# Altium footprint library 剥皮器20200614.PcbLib: 36 footprints (part 2 of 3)
Each footprint in its own frame and in the unit in brackets; x right, y up, seen from the top. Pads: shape width x height; smd on the part's side, far side on the other; paste and mask are expansions set on the pad; w line width, h text height; cw(c..) or ccw(c..) is an arc to the next point about the centre after c.
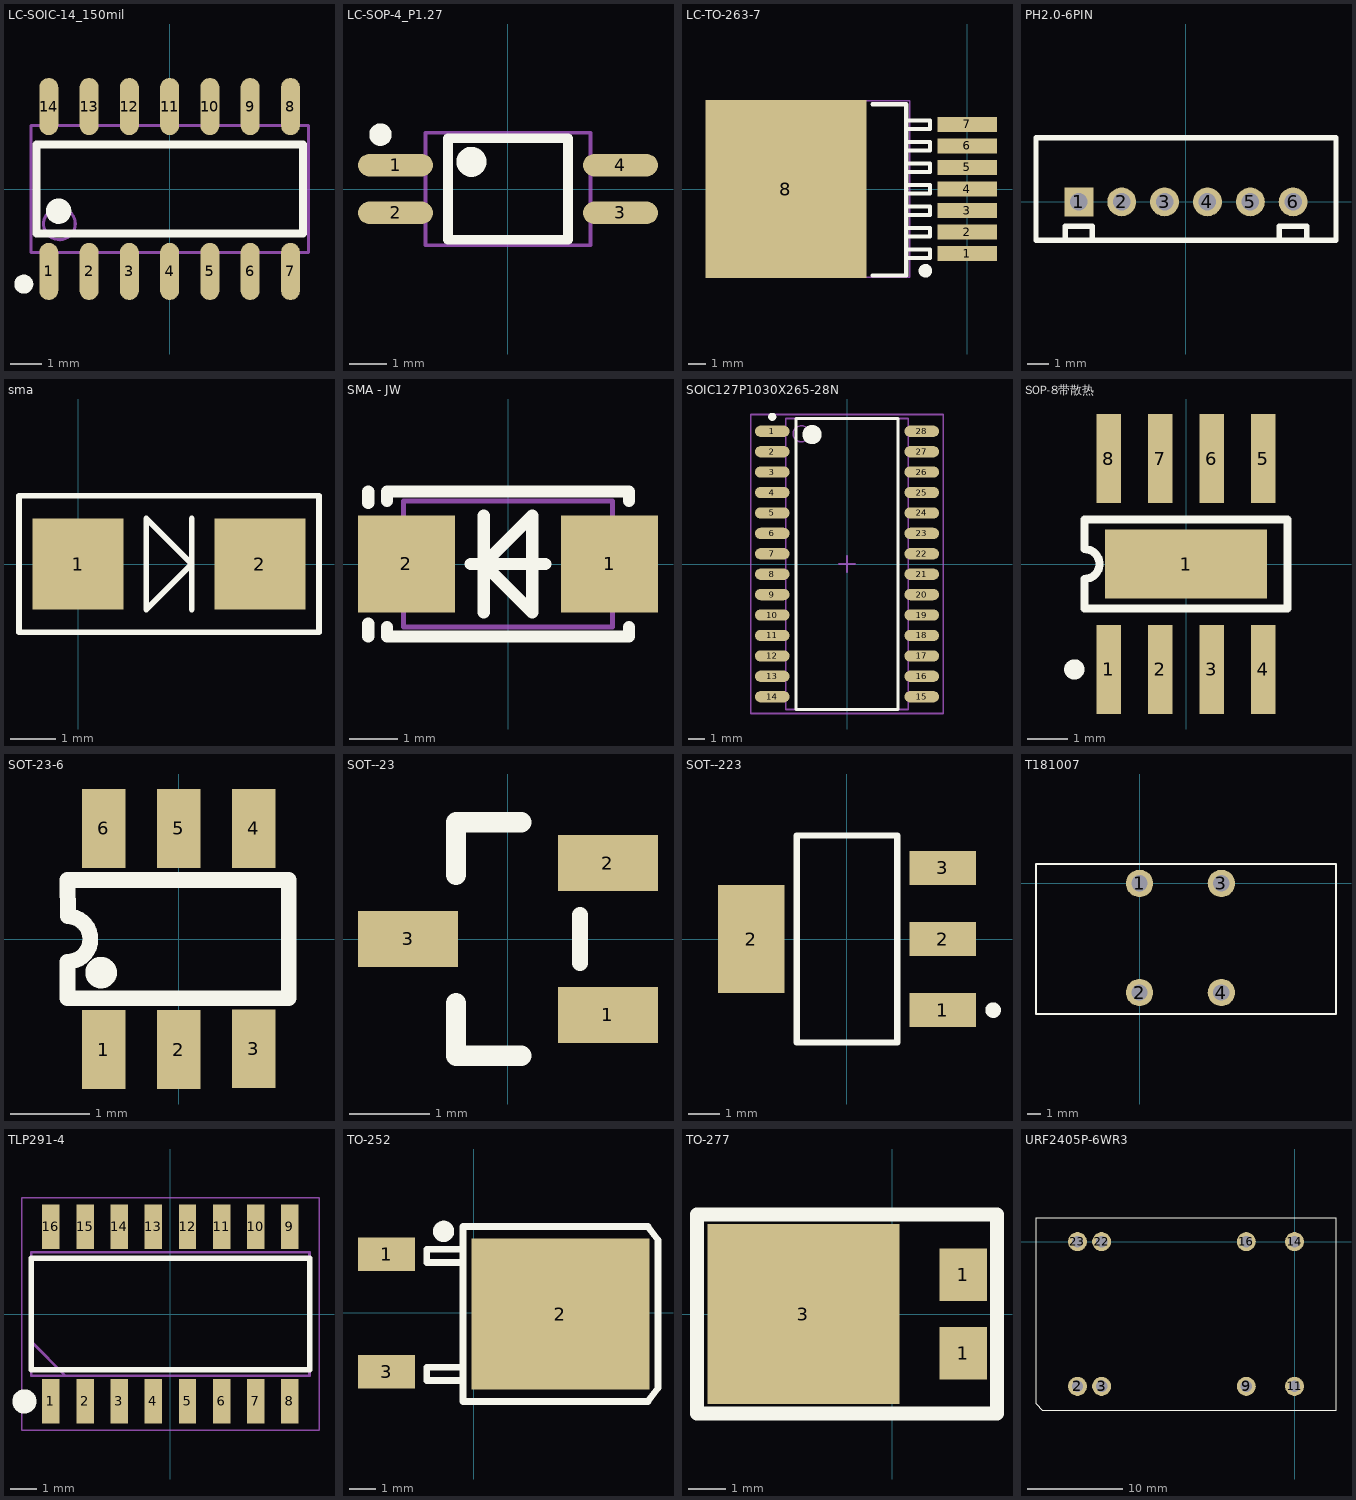
[diagram p1: the footprints below, top view; thin cyan lines are the x and y axes]

## LC-SOIC-14_150mil [mm]
height 2.54
pads (14):
  oval 0.6x1.8 smd: 1(-3.81,-2.6) 2(-2.54,-2.6) 3(-1.27,-2.6) 4(0,-2.6) 5(1.27,-2.6) 6(2.54,-2.6) 7(3.81,-2.6) 8(3.81,2.6) 9(2.54,2.6) 10(1.27,2.6) 11(0,2.6) 12(-1.27,2.6) 13(-2.54,2.6) 14(-3.81,2.6)
Top Overlay:
  circle w0.3: c-4.6,-3 r0.15
  circle w0.4: c-3.5,-0.7 r0.2
  lines w0.254: -4.2,-1.4 4.2,-1.4 4.2,1.4 -4.2,1.4 -4.2,-1.4
Mechanical 13:
  circle w0.1: c-3.475,-1.1 r0.5
  lines w0.1: -4.375,-2 4.375,-2 4.375,2 -4.375,2 -4.375,-2

## LC-SOP-4_P1.27 [mm]
pads (4):
  oval 2x0.6 smd: 1(-3,0.635) 2(-3,-0.635) 3(3,-0.635) 4(3,0.635)
Top Overlay:
  circle w0.4: c-0.975,0.725 r0.2
  circle w0.3: c-3.4,1.45 r0.15
  lines w0.254: -1.6,-1.35 1.6,-1.35 1.6,1.35 -1.6,1.35 -1.6,-1.35
Mechanical 13:
  lines w0.1: -2.2,-1.5 2.2,-1.5 2.2,1.5 -2.2,1.5 -2.2,-1.5

## LC-TO-263-7 [mm]
pads (8):
  rect 3.5x0.9 smd: 1(0,-3.81) 2(0,-2.54) 3(0,-1.27) 4(0,0) 5(0,1.27) 6(0,2.54) 7(0,3.81)
  rect 9.5x10.5 smd: 8(-10.7,0)
Top Overlay:
  circle w0.4: c-2.475,-4.825 r0.2
  lines w0.254: -5.6,-5.1 -3.6,-5.1 -3.6,5 -5.6,5 ; -3.6,-4.075 -2.2,-4.075 -2.2,-3.575 -3.6,-3.575 ; -3.6,-2.805 -2.2,-2.805 -2.2,-2.305 -3.6,-2.305 ; -3.6,-1.535 -2.2,-1.535 -2.2,-1.035 -3.6,-1.035 ; -3.6,-0.265 -2.2,-0.265 -2.2,0.235 -3.6,0.235 ; -3.6,1.005 -2.2,1.005 -2.2,1.505 -3.6,1.505 ; -3.6,2.275 -2.2,2.275 -2.2,2.775 -3.6,2.775 ; -3.6,3.545 -2.2,3.545 -2.2,4.045 -3.6,4.045
Mechanical 13:
  lines w0.1: -14.4,-5.2 -3.4,-5.2 -3.4,5.2 -14.4,5.2 -14.4,-5.2

## PH2.0-6PIN [mm]
pads (6):
  rect 1.35x1.35 hole 0.82: 1(-5,0)
  round 1.35 hole 0.82: 2(-3,0) 3(-1,0) 4(1,0) 5(3,0) 6(5,0)
Top Overlay:
  lines w0.254: -5.64,-1.8 -5.64,-1.148 -4.366,-1.148 -4.366,-1.8 ; 4.36,-1.8 4.36,-1.148 5.634,-1.148 5.634,-1.8 ; 7,-1.8 7,3 ; 7,-1.8 -7,-1.8 -7,3 7,3 ; 7,-1.8 7,3

## sma [mm]
pads (2):
  rect 2x2 smd: 1(0,0) 2(4,0)
Top Overlay:
  lines w0.127: 2.5,-1 2.5,1 ; -1.3,-1.5 5.3,-1.5 5.3,1.5 -1.3,1.5 -1.3,-1.5 ; 1.5,-1 2.5,0 1.5,1 1.5,-1

## SMA - JW [mm] "贴片4007"
pads (2):
  rect 2x2 smd: 1(2.1,0) 2(-2.1,0)
Top Overlay:
  lines w0.254: -2.891,-1.5 -2.891,-1.232 ; -2.891,1.26 -2.891,1.5 ; -2.5,-1.3 -2.5,-1.5 2.5,-1.5 2.5,-1.3 ; -2.5,1.3 -2.5,1.5 2.5,1.5 2.5,1.3 ; -0.77,0 0.77,0 ; -0.5,-1 -0.5,1 ; -0.5,0 0.5,-1 0.5,1 -0.5,0
Mechanical 13:
  lines w0.1: -2.16,-1.3 2.16,-1.3 2.16,1.3 -2.16,1.3 -2.16,-1.3

## SOIC127P1030X265-28N [mm] "SOIC, 28-Leads, Body 18.1x7.6mm (max), Pitch 1.27mm, IPC Medium Density"
height 2.65
pads (28):
  oval 2.15x0.7 smd: 1(-4.65,8.255) 2(-4.65,6.985) 3(-4.65,5.715) 4(-4.65,4.445) 5(-4.65,3.175) 6(-4.65,1.905) 7(-4.65,0.635) 8(-4.65,-0.635) 9(-4.65,-1.905) 10(-4.65,-3.175) 11(-4.65,-4.445) 12(-4.65,-5.715) 13(-4.65,-6.985) 14(-4.65,-8.255) 15(4.65,-8.255) 16(4.65,-6.985) 17(4.65,-5.715) 18(4.65,-4.445) 19(4.65,-3.175) 20(4.65,-1.905) 21(4.65,-0.635) 22(4.65,0.635) 23(4.65,1.905) 24(4.65,3.175) 25(4.65,4.445) 26(4.65,5.715) 27(4.65,6.985) 28(4.65,8.255)
Top Overlay:
  circle w0.25: c-4.65,9.155 r0.125
  circle w0.6: c-2.175,8.05 r0.3
  lines w0.2: -3.175,-9.05 -3.175,9.05 3.175,9.05 3.175,-9.05 -3.175,-9.05
Mechanical 13:
  circle w0.1: c-2.85,8.1 r0.5
  lines w0.1: -3.8,-9.05 -3.8,9.05 3.8,9.05 3.8,-9.05 -3.8,-9.05
Mechanical 15:
  lines w0.1: -0.5,0 0.5,0 ; 0,-0.5 0,0.5 ; -5.975,-9.3 -5.975,9.3 5.975,9.3 5.975,-9.3 -5.975,-9.3
3D body: height 2.65, standoff 0.1, extent -3.8,-9.05 3.8,9.05

## SOP-8带散热 [mm] "SOP-8带散热"
pads (9):
  rect 0.6x2.2 smd: 1(-1.905,-2.6) 2(-0.635,-2.6) 3(0.635,-2.6) 4(1.905,-2.6) 5(1.905,2.6) 6(0.635,2.6) 7(-0.635,2.6) 8(-1.905,2.6)
  rect 4x1.7 smd: 1(0,0)
Top Overlay:
  circle w0.25: c-2.755,-2.6 r0.125
  lines w0.2: -2.5,-1.1 -2.5,-0.367 ccw(c-2.5,0) -2.5,0.367 -2.5,1.1 2.5,1.1 2.5,-1.1 -2.5,-1.1

## SOT-23-6 [mm] "DW01"
pads (6):
  rect 0.55x1 smd: 1(-0.95,-1.4) 2(0,-1.4) 3(0.95,-1.39) 4(0.95,1.4) 5(0,1.4) 6(-0.95,1.4)
Top Overlay:
  circle w0.2: c-0.982,-0.426 r0.1
  lines w0.2: -1.406,-0.75 -1.406,-0.288 ccw(c-1.406,0) -1.403,0.288 -1.406,0.748 1.396,0.748 1.396,-0.75 -1.406,-0.75

## SOT--23 [mm] "贴片三极管"
pads (3):
  rect 1.25x0.7 smd: 1(1.25,-0.95) 2(1.25,0.95) 3(-1.25,0)
Top Overlay:
  lines w0.2: 0.9,-0.3 0.9,0.3
  lines w0.254: -0.65,-0.8 -0.65,-1.46 0.165,-1.46 ; 0.165,1.46 -0.65,1.46 ; -0.65,0.8 -0.65,1.46 ; -0.65,0.8 -0.65,1.46 ; -0.65,0.8 -0.65,1.46

## SOT--223 [mm] "AMS1117"
pads (4):
  rect 2.15x1.1 smd: 1(3.1,-2.3) 2(3.1,0) 3(3.1,2.3)
  rect 2.15x3.5 smd: 2(-3.1,0)
Top Overlay:
  circle w0.25: c4.725,-2.3 r0.125
  lines w0.2: -1.625,-3.35 -1.625,3.35 1.625,3.35 1.625,-3.35 -1.625,-3.35

## T181007 [mm]
height 2.65
pads (4):
  round 2 hole 1.2: 1(0,0) 2(0,-8) 3(6,0) 4(6,-8)
Top Overlay:
  lines w0.127: -7.595,-9.576 -7.595,1.424 14.405,1.424 14.405,-9.576 -7.595,-9.576

## TLP291-4 [mm]
pads (16):
  rect 0.65x1.65 smd: 1(-4.445,-3.25) 2(-3.175,-3.25) 3(-1.905,-3.25) 4(-0.635,-3.25) 5(0.635,-3.25) 6(1.905,-3.25) 7(3.175,-3.25) 8(4.445,-3.25) 9(4.445,3.25) 10(3.175,3.25) 11(1.905,3.25) 12(0.635,3.25) 13(-0.635,3.25) 14(-1.905,3.25) 15(-3.175,3.25) 16(-4.445,3.25)
Top Overlay:
  circle w0.5: c-5.431,-3.25 r0.2
  lines w0.2: -5.175,-2.075 5.175,-2.075 5.175,2.075 -5.175,2.075 -5.175,-2.075
Mechanical 13:
  lines w0.1: -5.175,-1.03 -3.905,-2.3 ; -5.175,-2.3 5.175,-2.3 5.175,2.3 -5.175,2.3 -5.175,-2.3
Mechanical 15:
  lines w0.05: -5.525,-4.325 5.525,-4.325 5.525,4.325 -5.525,4.325 -5.525,-4.325
3D body: height 2.3, standoff 0, extent -5.175,-3.5 5.175,3.5

## TO-252 [mil] "TO-252"
height 214.96
pads (3):
  rect 85x50 smd: 1(-129.25,87.5) 3(-129.25,-87.5)
  rect 265x225 smd: 2(129.25,-1.5)
Top Overlay:
  circle w15.75: c-44.57,121.42 r7.87
  lines w10: -18.38,-100.38 -69.56,-100.38 -69.56,-80.69 -18.38,-80.69 ; -18.31,74.92 -69.49,74.92 -69.49,94.61 -18.31,94.61 ; -15.75,-131.5 -15.75,128.5 259.25,128.5 274.25,108.5 274.25,-1.5 274.25,-111.5 259.25,-131.5 -15.75,-131.5

## TO-277 [mil]
pads (3):
  rect 50.8x56 smd: 1(76.1,-41.6) 1(76.1,41.6)
  rect 204.72x192 smd: 3(-94.49,0)
Top Overlay:
  lines w15.24: -207.87,-106 -207.87,106 111.9,106 111.9,-106 -207.87,-106

## URF2405P-6WR3 [mm]
height 2.65
pads (8):
  round 2 hole 1.2: 2(-22.86,-15.24) 3(-20.32,-15.24) 9(-5.08,-15.24) 11(0,-15.24) 14(0,0) 16(-5.08,0) 22(-20.32,0) 23(-22.86,0)
Top Overlay:
  lines w0.127: -27.23,-17.093 -26.553,-17.77 4.37,-17.77 4.37,2.53 -27.23,2.53 -27.23,-17.093